# Altium schematic symbol library CONN-4-PIN.SchLib: 1 symbol
Pins are listed as number, name and electrical type; pins without a type are passive.

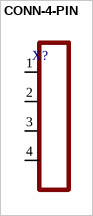
[diagram p0: symbol CONN-4-PIN]

## CONN-4-PIN
designator X?
footprint CONN-PLS-4-2.54mm
pins: 1, 2, 3, 4